# Altium footprint library GS66516T_650V_60A.PcbLib: 1 footprints
Each footprint in its own frame and in the unit in brackets; x right, y up, seen from the top. Pads: shape width x height; smd on the part's side, far side on the other; paste and mask are expansions set on the pad; w line width, h text height; cw(c..) or ccw(c..) is an arc to the next point about the centre after c.
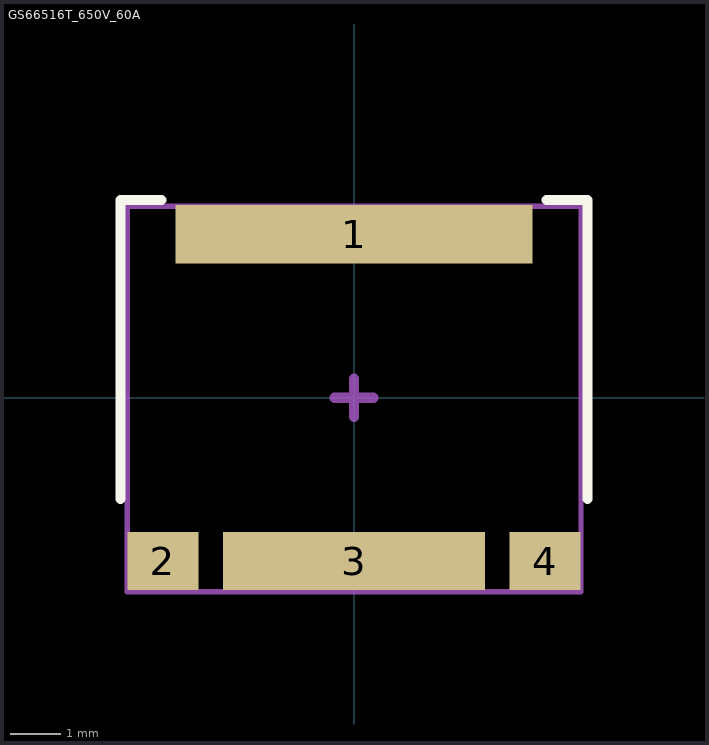
[diagram p0: the footprint, top view; thin cyan lines are the x and y axes]

## GS66516T_650V_60A [mm] "GAN TRANS EMODE 650V 60A TOP SIDE COOL"
height 0.5
pads (4):
  rect 7.04x1.15 smd: 1(0,3.22)
  rect 1.4x1.15 smd: 2(-3.77,-3.22) 4(3.77,-3.22)
  rect 5.17x1.15 smd: 3(0,-3.22)
Top Overlay:
  lines w0.2: -4.6,-2 -4.6,3.9 -3.8,3.9 ; 3.8,3.9 4.6,3.9 4.6,-2
Mechanical 8:
  text ".Designator" at -4.572,-1.067 h2
Mechanical 10:
  lines w0.1: -4.47,-3.825 -4.47,3.775 4.475,3.775 4.475,-3.825 -4.47,-3.825
Mechanical 11:
  lines w0.1: -4.47,-3.825 4.475,-3.825 4.475,3.775 -4.47,3.775 -4.47,-3.825
  lines w0.2: -0.381,0 0.381,0 ; 0,-0.381 0,0.381
Mechanical 12:
  text ".Comment" at -4.572,-1.067 h2
3D body "GS66516T.stp": height 0.53, standoff -0.01, extent -4.489,-3.835 4.489,3.785